# Altium schematic symbol library kmilo17pet-TI_RS232.SchLib: 1272 symbols (part 26 of 37)
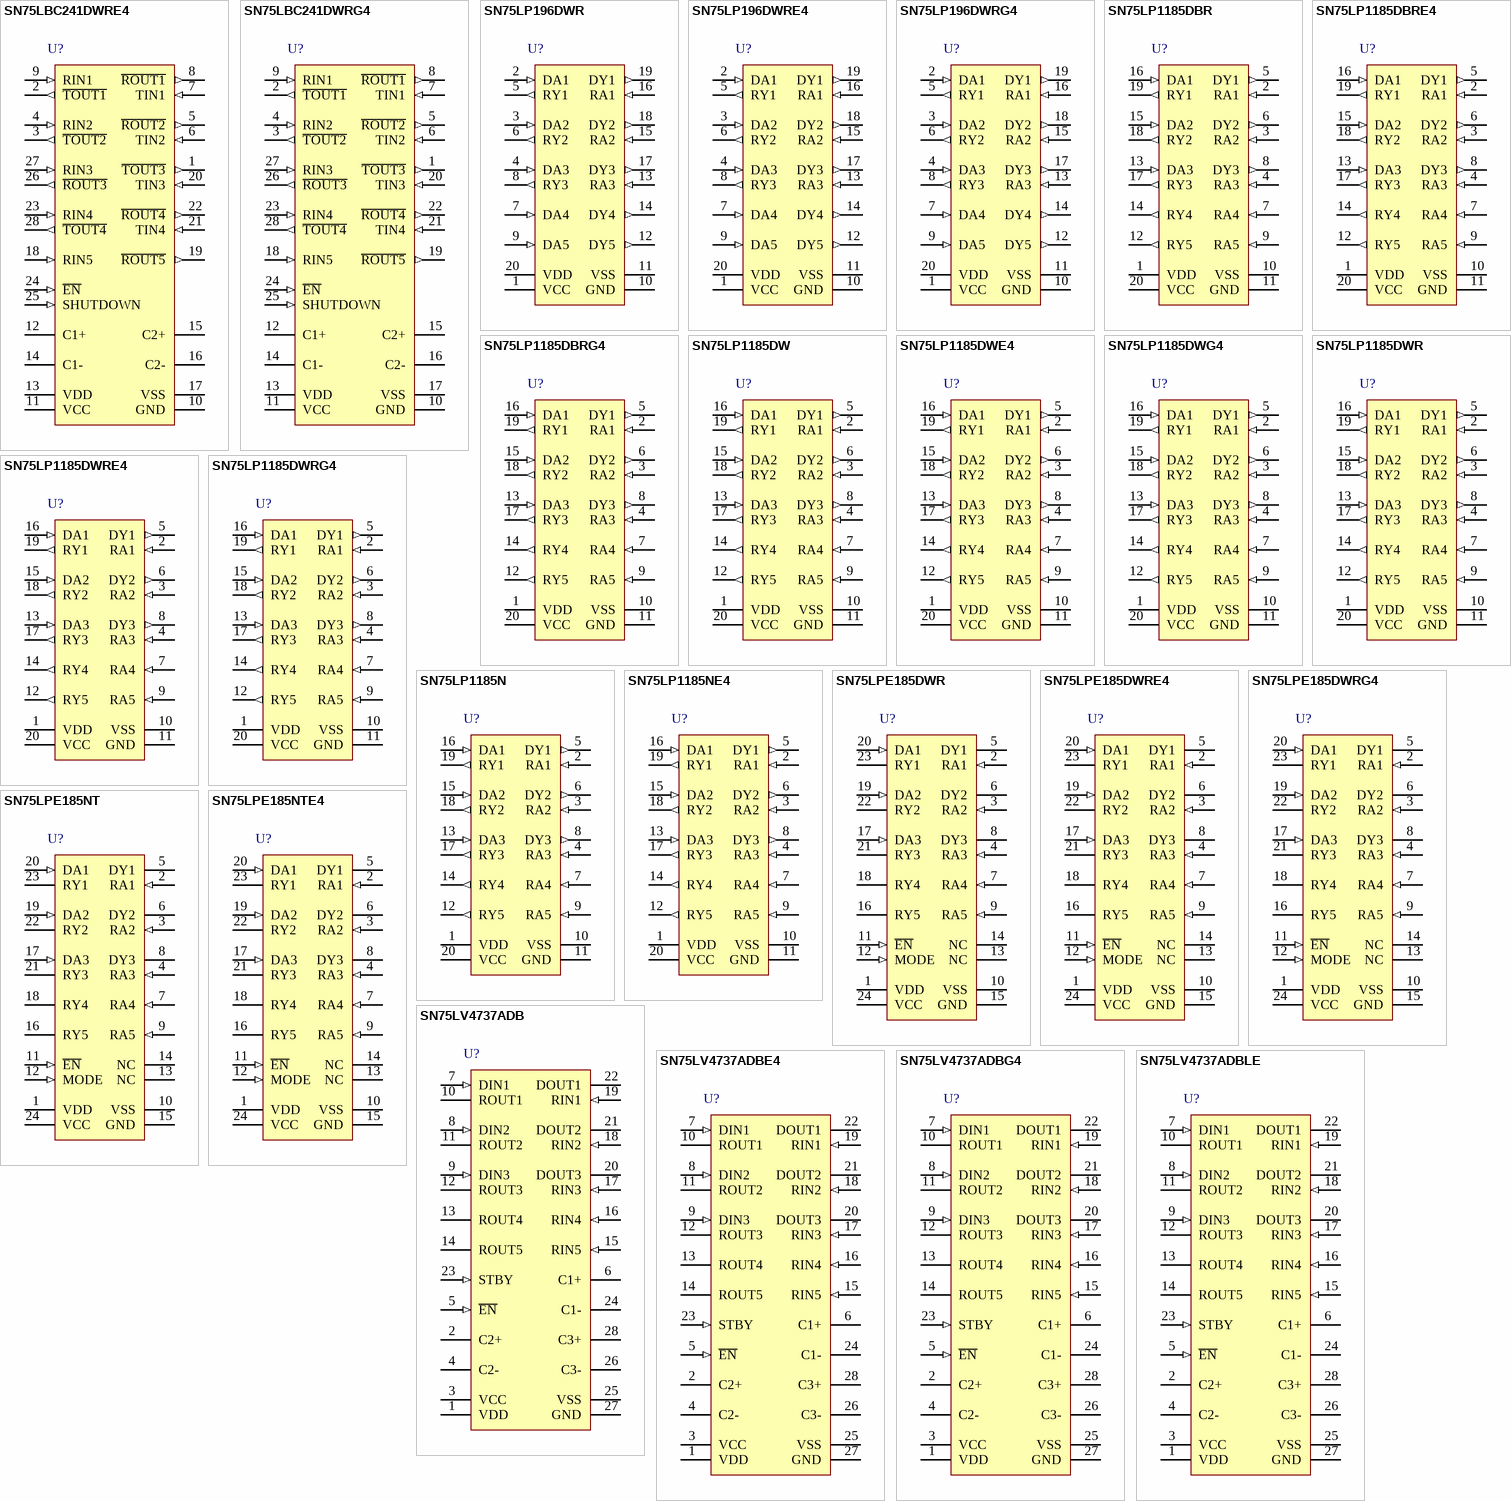
[diagram p79: symbols SN75LBC241DWRE4 to SN75LV4737ADBLE]

## SN75LV4737ADBLE
designator U?
3.3-V / 5-V Multichannel RS-232 Line Driver / Receiver, 0 to 70 degC, 28-Pin SSOP (DB), Green (RoHS & no Sb/Br); Drivers Per Package: 3; Receivers Per Package: 5; Supply Voltage(s)(V): 3.3 or 5.0; ESD HBM(kV): +/-4; ICC(Max)(mA): 20.7; Single Supply: TRUE; DatasheetVersion: SLLS178D; PackageVersion: revE, Dec-2001; PackageReference: DB28; PackageDescription: 28-Pin Plastic Small Outline Package, 10.2 x 5.3 mm Body, 0.65 mm Pitch; SubFamily: RS-232; RS-232: TRUE; ComponentLink1Description: Manufacturer URL; ComponentLink1URL: www.ti.com; ComponentLink2Description: Datasheet; ComponentLink2URL: http://www.ti.com/general/docs/lit/getliterature.tsp?genericPartNumber=SN75LV4737A&fileType=pdf; ComponentLink3Description: Package Specification; ComponentLink3URL: http://www.ti.com/litv/pdf/msso002e
footprint TI-DB28_N (SOP, 28-Leads, Body 10.2x5.3mm, Pitch 0.65mm, IPC Medium Density)
footprint TI-DB28_L (SOP, 28-Leads, Body 10.2x5.3mm, Pitch 0.65mm, IPC High Density)
footprint TI-DB28_M (SOP, 28-Leads, Body 10.2x5.3mm, Pitch 0.65mm, IPC Low Density)
pins: 1 VDD (power), 2 C2+, 3 VCC (power), 4 C2-, 5 ~{EN} (in), 6 C1+, 7 DIN1 (in), 8 DIN2 (in), 9 DIN3 (in), 10 ROUT1 (hiz), 11 ROUT2 (hiz), 12 ROUT3 (hiz), 13 ROUT4 (hiz), 14 ROUT5 (hiz), 15 RIN5 (in), 16 RIN4 (in), 17 RIN3 (in), 18 RIN2 (in), 19 RIN1 (in), 20 DOUT3 (hiz), 21 DOUT2 (hiz), 22 DOUT1 (hiz), 23 STBY (in), 24 C1-, 25 VSS (power), 26 C3-, 27 GND (power), 28 C3+

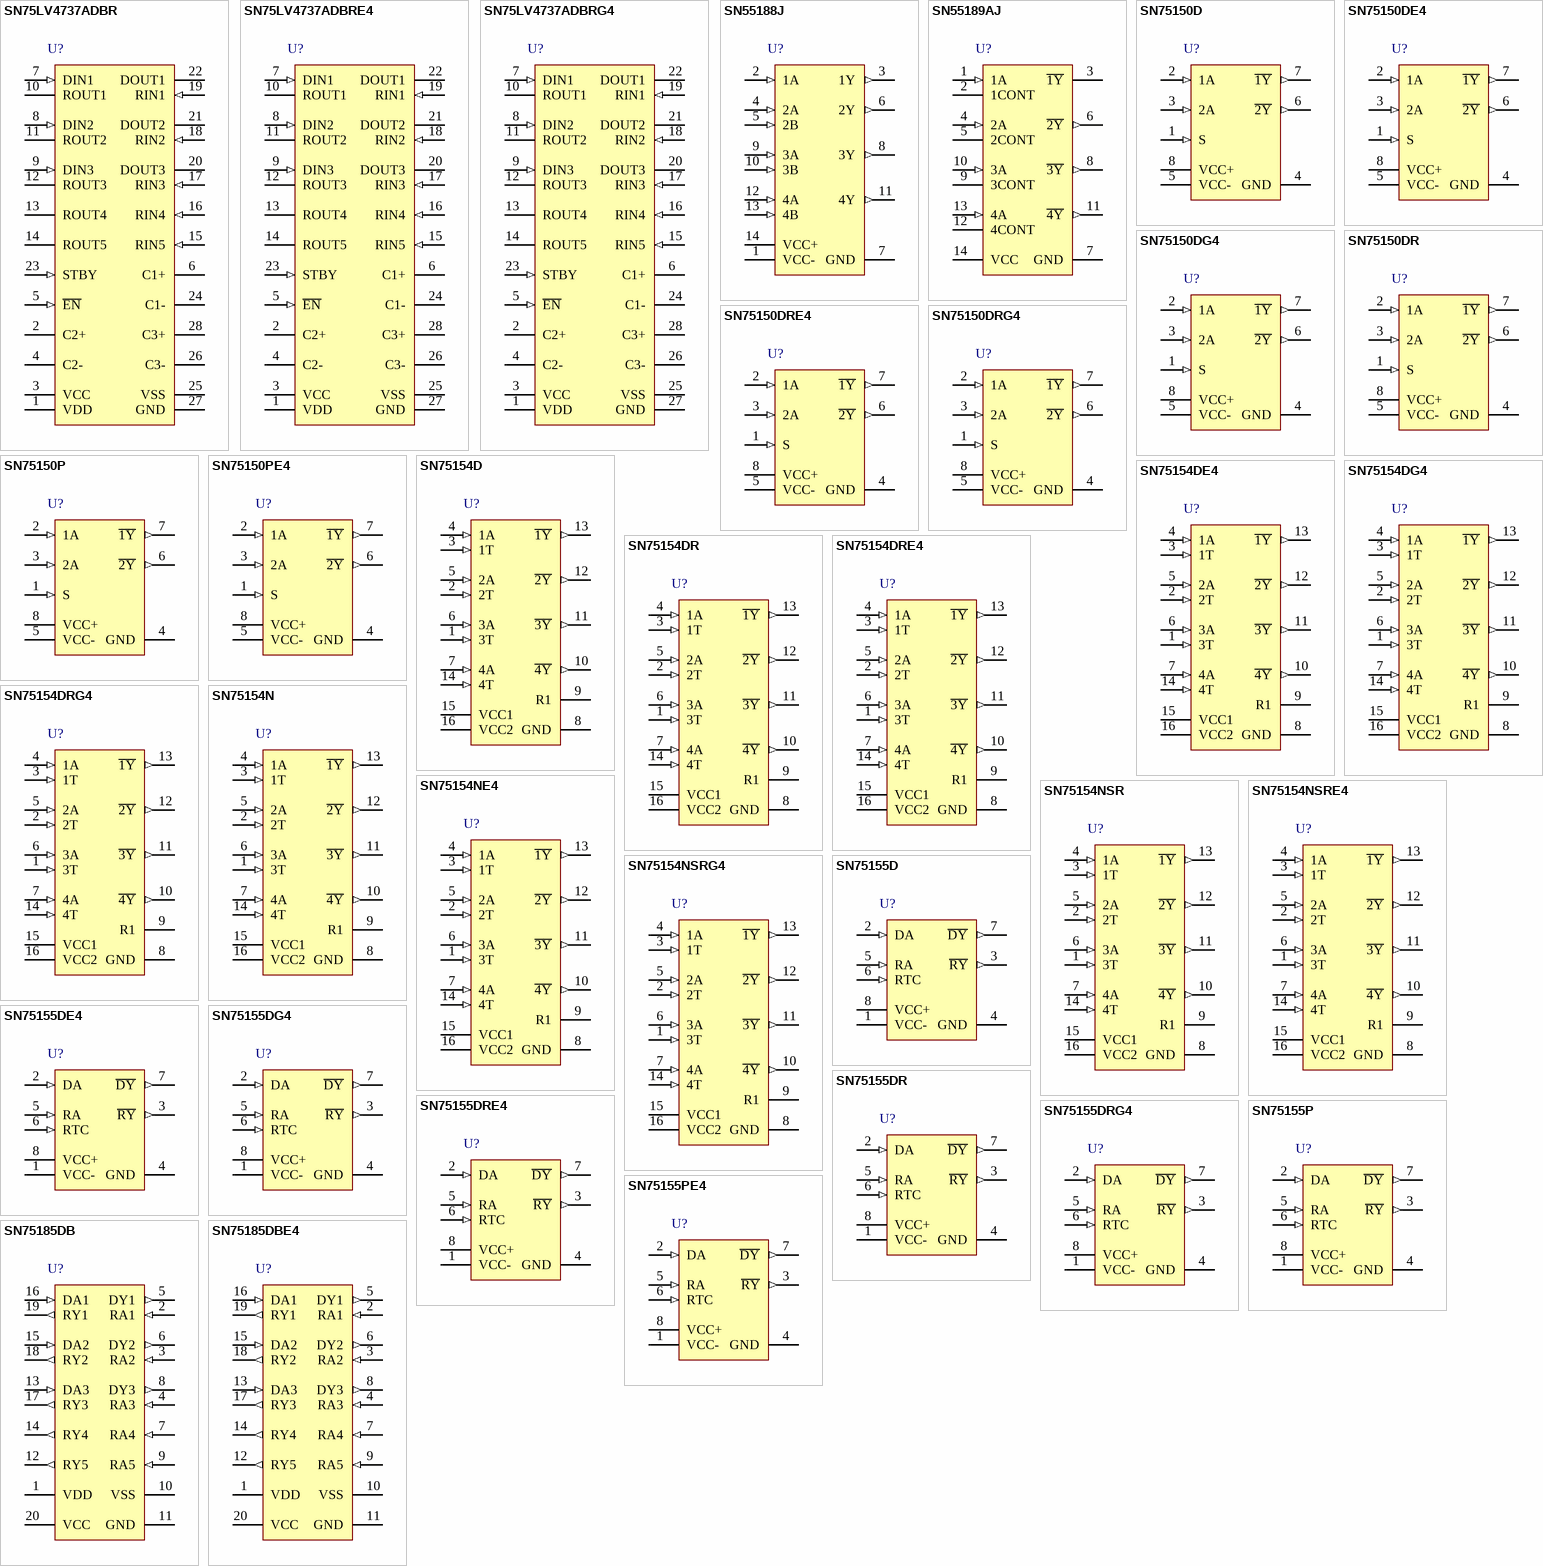
[diagram p38: symbols SN75LV4737ADBR to SN75185DBE4]

## SN75LV4737ADBR
designator U?
3.3-V / 5-V Multichannel RS-232 Line Driver / Receiver, 0 to 70 degC, 28-Pin SSOP (DB), Green (RoHS & no Sb/Br); Drivers Per Package: 3; Receivers Per Package: 5; Supply Voltage(s)(V): 3.3 or 5.0; ESD HBM(kV): +/-4; ICC(Max)(mA): 20.7; Single Supply: TRUE; DatasheetVersion: SLLS178D; PackageVersion: revE, Dec-2001; PackageReference: DB28; PackageDescription: 28-Pin Plastic Small Outline Package, 10.2 x 5.3 mm Body, 0.65 mm Pitch; SubFamily: RS-232; RS-232: TRUE; ComponentLink1Description: Manufacturer URL; ComponentLink1URL: www.ti.com; ComponentLink2Description: Datasheet; ComponentLink2URL: http://www.ti.com/general/docs/lit/getliterature.tsp?genericPartNumber=SN75LV4737A&fileType=pdf; ComponentLink3Description: Package Specification; ComponentLink3URL: http://www.ti.com/litv/pdf/msso002e
footprint TI-DB28_N (SOP, 28-Leads, Body 10.2x5.3mm, Pitch 0.65mm, IPC Medium Density)
footprint TI-DB28_L (SOP, 28-Leads, Body 10.2x5.3mm, Pitch 0.65mm, IPC High Density)
footprint TI-DB28_M (SOP, 28-Leads, Body 10.2x5.3mm, Pitch 0.65mm, IPC Low Density)
pins: 1 VDD (power), 2 C2+, 3 VCC (power), 4 C2-, 5 ~{EN} (in), 6 C1+, 7 DIN1 (in), 8 DIN2 (in), 9 DIN3 (in), 10 ROUT1 (hiz), 11 ROUT2 (hiz), 12 ROUT3 (hiz), 13 ROUT4 (hiz), 14 ROUT5 (hiz), 15 RIN5 (in), 16 RIN4 (in), 17 RIN3 (in), 18 RIN2 (in), 19 RIN1 (in), 20 DOUT3 (hiz), 21 DOUT2 (hiz), 22 DOUT1 (hiz), 23 STBY (in), 24 C1-, 25 VSS (power), 26 C3-, 27 GND (power), 28 C3+

## SN75LV4737ADBRE4
designator U?
3.3-V / 5-V Multichannel RS-232 Line Driver / Receiver, 0 to 70 degC, 28-Pin SSOP (DB), Green (RoHS & no Sb/Br); Drivers Per Package: 3; Receivers Per Package: 5; Supply Voltage(s)(V): 3.3 or 5.0; ESD HBM(kV): +/-4; ICC(Max)(mA): 20.7; Single Supply: TRUE; DatasheetVersion: SLLS178D; PackageVersion: revE, Dec-2001; PackageReference: DB28; PackageDescription: 28-Pin Plastic Small Outline Package, 10.2 x 5.3 mm Body, 0.65 mm Pitch; SubFamily: RS-232; RS-232: TRUE; ComponentLink1Description: Manufacturer URL; ComponentLink1URL: www.ti.com; ComponentLink2Description: Datasheet; ComponentLink2URL: http://www.ti.com/general/docs/lit/getliterature.tsp?genericPartNumber=SN75LV4737A&fileType=pdf; ComponentLink3Description: Package Specification; ComponentLink3URL: http://www.ti.com/litv/pdf/msso002e
footprint TI-DB28_N (SOP, 28-Leads, Body 10.2x5.3mm, Pitch 0.65mm, IPC Medium Density)
footprint TI-DB28_L (SOP, 28-Leads, Body 10.2x5.3mm, Pitch 0.65mm, IPC High Density)
footprint TI-DB28_M (SOP, 28-Leads, Body 10.2x5.3mm, Pitch 0.65mm, IPC Low Density)
pins: 1 VDD (power), 2 C2+, 3 VCC (power), 4 C2-, 5 ~{EN} (in), 6 C1+, 7 DIN1 (in), 8 DIN2 (in), 9 DIN3 (in), 10 ROUT1 (hiz), 11 ROUT2 (hiz), 12 ROUT3 (hiz), 13 ROUT4 (hiz), 14 ROUT5 (hiz), 15 RIN5 (in), 16 RIN4 (in), 17 RIN3 (in), 18 RIN2 (in), 19 RIN1 (in), 20 DOUT3 (hiz), 21 DOUT2 (hiz), 22 DOUT1 (hiz), 23 STBY (in), 24 C1-, 25 VSS (power), 26 C3-, 27 GND (power), 28 C3+

## SN75LV4737ADBRG4
designator U?
3.3-V / 5-V Multichannel RS-232 Line Driver / Receiver, 0 to 70 degC, 28-Pin SSOP (DB), Green (RoHS & no Sb/Br); Drivers Per Package: 3; Receivers Per Package: 5; Supply Voltage(s)(V): 3.3 or 5.0; ESD HBM(kV): +/-4; ICC(Max)(mA): 20.7; Single Supply: TRUE; DatasheetVersion: SLLS178D; PackageVersion: revE, Dec-2001; PackageReference: DB28; PackageDescription: 28-Pin Plastic Small Outline Package, 10.2 x 5.3 mm Body, 0.65 mm Pitch; SubFamily: RS-232; RS-232: TRUE; ComponentLink1Description: Manufacturer URL; ComponentLink1URL: www.ti.com; ComponentLink2Description: Datasheet; ComponentLink2URL: http://www.ti.com/general/docs/lit/getliterature.tsp?genericPartNumber=SN75LV4737A&fileType=pdf; ComponentLink3Description: Package Specification; ComponentLink3URL: http://www.ti.com/litv/pdf/msso002e
footprint TI-DB28_N (SOP, 28-Leads, Body 10.2x5.3mm, Pitch 0.65mm, IPC Medium Density)
footprint TI-DB28_L (SOP, 28-Leads, Body 10.2x5.3mm, Pitch 0.65mm, IPC High Density)
footprint TI-DB28_M (SOP, 28-Leads, Body 10.2x5.3mm, Pitch 0.65mm, IPC Low Density)
pins: 1 VDD (power), 2 C2+, 3 VCC (power), 4 C2-, 5 ~{EN} (in), 6 C1+, 7 DIN1 (in), 8 DIN2 (in), 9 DIN3 (in), 10 ROUT1 (hiz), 11 ROUT2 (hiz), 12 ROUT3 (hiz), 13 ROUT4 (hiz), 14 ROUT5 (hiz), 15 RIN5 (in), 16 RIN4 (in), 17 RIN3 (in), 18 RIN2 (in), 19 RIN1 (in), 20 DOUT3 (hiz), 21 DOUT2 (hiz), 22 DOUT1 (hiz), 23 STBY (in), 24 C1-, 25 VSS (power), 26 C3-, 27 GND (power), 28 C3+

## SN55188J
designator U?
Quadruple Line Driver, -55 to 125 degC, 14-Pin CDIP (J); SubFamily: RS-232; Drivers Per Package: 4; Supply Voltage(s)(V): +/-9.0; ICC(Max)(mA): +/-34; RS-232: TRUE; DatasheetVersion: SLLS094C; PackageVersion: revF, Mar-2003; PackageReference: J14; PackageDescription: 14-Pin Ceramic Dual-In-Line Package, Row Spacing 7.62 mm, Pitch 2.54 mm; ComponentLink1Description: Manufacturer URL; ComponentLink1URL: www.ti.com; ComponentLink2Description: Datasheet; ComponentLink2URL: http://www.ti.com/general/docs/lit/getliterature.tsp?genericPartNumber=SN55188&fileType=pdf; ComponentLink3Description: Package Specification; ComponentLink3URL: http://www.ti.com/litv/pdf/mcer002d
footprint TI-J14 (DIP, 14-Leads, Row Spacing 7.62mm, Pitch 2.54mm, Body 19.9x6.9mm)
pins: 1 VCC- (power), 2 1A (in), 3 1Y (out), 4 2A (in), 5 2B (in), 6 2Y (out), 7 GND (power), 8 3Y (out), 9 3A (in), 10 3B (in), 11 4Y (out), 12 4A (in), 13 4B (in), 14 VCC+ (power)

## SN55189AJ
designator U?
Quadruple Line Receiver, -55 to 125 degC, 14-Pin CDIP (J); SubFamily: RS-232; Receivers Per Package: 4; Supply Voltage(s)(V): 5; ICC(Max)(mA): 26; Single Supply: TRUE; DatasheetVersion: SLLS095D; PackageVersion: revF, Mar-2003; PackageReference: J14; PackageDescription: 14-Pin Ceramic Dual-In-Line Package, Row Spacing 7.62 mm, Pitch 2.54 mm; RS-232: TRUE; ComponentLink1Description: Manufacturer URL; ComponentLink1URL: www.ti.com; ComponentLink2Description: Datasheet; ComponentLink2URL: http://www.ti.com/general/docs/lit/getliterature.tsp?genericPartNumber=SN55189A&fileType=pdf; ComponentLink3Description: Package Specification; ComponentLink3URL: http://www.ti.com/litv/pdf/mcer002d
footprint TI-J14 (DIP, 14-Leads, Row Spacing 7.62mm, Pitch 2.54mm, Body 19.9x6.9mm)
pins: 1 1A (in), 2 1CONT, 3 ~{1Y} (oc), 4 2A (in), 5 2CONT, 6 ~{2Y} (out), 7 GND (power), 8 ~{3Y} (out), 9 3CONT, 10 3A (in), 11 ~{4Y} (out), 12 4CONT, 13 4A (in), 14 VCC (power)

## SN75150D
designator U?
Dual Line Driver, 0 to 70 degC, 8-Pin SOIC (D), Green (RoHS & no Sb/Br); SubFamily: RS-232; Drivers Per Package: 2; Supply Voltage(s)(V): +/-12.0; ESD HBM(kV): +/-2; ICC(Max)(mA): +22/-20; RS-232: TRUE; DatasheetVersion: SLLS081C; PackageVersion: revM, Jun-2011; PackageReference: D8; PackageDescription: 8-Pin Plastic Small Outline Integrated Circuit, 4.9 x 3.9 mm, Pitch 1.27 mm Pitch; ComponentLink1Description: Manufacturer URL; ComponentLink1URL: www.ti.com; ComponentLink2Description: Datasheet; ComponentLink2URL: http://www.ti.com/general/docs/lit/getliterature.tsp?genericPartNumber=SN75150&fileType=pdf; ComponentLink3Description: Package Specification; ComponentLink3URL: http://www.ti.com/litv/pdf/msoi002j
footprint TI-D8_N (SOIC, 8-Leads, Body 4.9x3.9mm, Pitch 1.27mm, IPC Medium Density)
footprint TI-D8_L (SOIC, 8-Leads, Body 4.9x3.9mm, Pitch 1.27mm, IPC High Density)
footprint TI-D8_M (SOIC, 8-Leads, Body 4.9x3.9mm, Pitch 1.27mm, IPC Low Density)
pins: 1 S (in), 2 1A (in), 3 2A (in), 4 GND (power), 5 VCC- (power), 6 ~{2Y} (out), 7 ~{1Y} (out), 8 VCC+ (power)

## SN75150DE4
designator U?
Dual Line Driver, 0 to 70 degC, 8-Pin SOIC (D), Green (RoHS & no Sb/Br); SubFamily: RS-232; Drivers Per Package: 2; Supply Voltage(s)(V): +/-12.0; ESD HBM(kV): +/-2; ICC(Max)(mA): +22/-20; RS-232: TRUE; DatasheetVersion: SLLS081C; PackageVersion: revM, Jun-2011; PackageReference: D8; PackageDescription: 8-Pin Plastic Small Outline Integrated Circuit, 4.9 x 3.9 mm, Pitch 1.27 mm Pitch; ComponentLink1Description: Manufacturer URL; ComponentLink1URL: www.ti.com; ComponentLink2Description: Datasheet; ComponentLink2URL: http://www.ti.com/general/docs/lit/getliterature.tsp?genericPartNumber=SN75150&fileType=pdf; ComponentLink3Description: Package Specification; ComponentLink3URL: http://www.ti.com/litv/pdf/msoi002j
footprint TI-D8_N (SOIC, 8-Leads, Body 4.9x3.9mm, Pitch 1.27mm, IPC Medium Density)
footprint TI-D8_L (SOIC, 8-Leads, Body 4.9x3.9mm, Pitch 1.27mm, IPC High Density)
footprint TI-D8_M (SOIC, 8-Leads, Body 4.9x3.9mm, Pitch 1.27mm, IPC Low Density)
pins: 1 S (in), 2 1A (in), 3 2A (in), 4 GND (power), 5 VCC- (power), 6 ~{2Y} (out), 7 ~{1Y} (out), 8 VCC+ (power)

## SN75150DG4
designator U?
Dual Line Driver, 0 to 70 degC, 8-Pin SOIC (D), Green (RoHS & no Sb/Br); SubFamily: RS-232; Drivers Per Package: 2; Supply Voltage(s)(V): +/-12.0; ESD HBM(kV): +/-2; ICC(Max)(mA): +22/-20; RS-232: TRUE; DatasheetVersion: SLLS081C; PackageVersion: revM, Jun-2011; PackageReference: D8; PackageDescription: 8-Pin Plastic Small Outline Integrated Circuit, 4.9 x 3.9 mm, Pitch 1.27 mm Pitch; ComponentLink1Description: Manufacturer URL; ComponentLink1URL: www.ti.com; ComponentLink2Description: Datasheet; ComponentLink2URL: http://www.ti.com/general/docs/lit/getliterature.tsp?genericPartNumber=SN75150&fileType=pdf; ComponentLink3Description: Package Specification; ComponentLink3URL: http://www.ti.com/litv/pdf/msoi002j
footprint TI-D8_N (SOIC, 8-Leads, Body 4.9x3.9mm, Pitch 1.27mm, IPC Medium Density)
footprint TI-D8_L (SOIC, 8-Leads, Body 4.9x3.9mm, Pitch 1.27mm, IPC High Density)
footprint TI-D8_M (SOIC, 8-Leads, Body 4.9x3.9mm, Pitch 1.27mm, IPC Low Density)
pins: 1 S (in), 2 1A (in), 3 2A (in), 4 GND (power), 5 VCC- (power), 6 ~{2Y} (out), 7 ~{1Y} (out), 8 VCC+ (power)

## SN75150DR
designator U?
Dual Line Driver, 0 to 70 degC, 8-Pin SOIC (D), Green (RoHS & no Sb/Br); SubFamily: RS-232; Drivers Per Package: 2; Supply Voltage(s)(V): +/-12.0; ESD HBM(kV): +/-2; ICC(Max)(mA): +22/-20; RS-232: TRUE; DatasheetVersion: SLLS081C; PackageVersion: revM, Jun-2011; PackageReference: D8; PackageDescription: 8-Pin Plastic Small Outline Integrated Circuit, 4.9 x 3.9 mm, Pitch 1.27 mm Pitch; ComponentLink1Description: Manufacturer URL; ComponentLink1URL: www.ti.com; ComponentLink2Description: Datasheet; ComponentLink2URL: http://www.ti.com/general/docs/lit/getliterature.tsp?genericPartNumber=SN75150&fileType=pdf; ComponentLink3Description: Package Specification; ComponentLink3URL: http://www.ti.com/litv/pdf/msoi002j
footprint TI-D8_N (SOIC, 8-Leads, Body 4.9x3.9mm, Pitch 1.27mm, IPC Medium Density)
footprint TI-D8_L (SOIC, 8-Leads, Body 4.9x3.9mm, Pitch 1.27mm, IPC High Density)
footprint TI-D8_M (SOIC, 8-Leads, Body 4.9x3.9mm, Pitch 1.27mm, IPC Low Density)
pins: 1 S (in), 2 1A (in), 3 2A (in), 4 GND (power), 5 VCC- (power), 6 ~{2Y} (out), 7 ~{1Y} (out), 8 VCC+ (power)

## SN75150DRE4
designator U?
Dual Line Driver, 0 to 70 degC, 8-Pin SOIC (D), Green (RoHS & no Sb/Br); SubFamily: RS-232; Drivers Per Package: 2; Supply Voltage(s)(V): +/-12.0; ESD HBM(kV): +/-2; ICC(Max)(mA): +22/-20; RS-232: TRUE; DatasheetVersion: SLLS081C; PackageVersion: revM, Jun-2011; PackageReference: D8; PackageDescription: 8-Pin Plastic Small Outline Integrated Circuit, 4.9 x 3.9 mm, Pitch 1.27 mm Pitch; ComponentLink1Description: Manufacturer URL; ComponentLink1URL: www.ti.com; ComponentLink2Description: Datasheet; ComponentLink2URL: http://www.ti.com/general/docs/lit/getliterature.tsp?genericPartNumber=SN75150&fileType=pdf; ComponentLink3Description: Package Specification; ComponentLink3URL: http://www.ti.com/litv/pdf/msoi002j
footprint TI-D8_N (SOIC, 8-Leads, Body 4.9x3.9mm, Pitch 1.27mm, IPC Medium Density)
footprint TI-D8_L (SOIC, 8-Leads, Body 4.9x3.9mm, Pitch 1.27mm, IPC High Density)
footprint TI-D8_M (SOIC, 8-Leads, Body 4.9x3.9mm, Pitch 1.27mm, IPC Low Density)
pins: 1 S (in), 2 1A (in), 3 2A (in), 4 GND (power), 5 VCC- (power), 6 ~{2Y} (out), 7 ~{1Y} (out), 8 VCC+ (power)

## SN75150DRG4
designator U?
Dual Line Driver, 0 to 70 degC, 8-Pin SOIC (D), Green (RoHS & no Sb/Br); SubFamily: RS-232; Drivers Per Package: 2; Supply Voltage(s)(V): +/-12.0; ESD HBM(kV): +/-2; ICC(Max)(mA): +22/-20; RS-232: TRUE; DatasheetVersion: SLLS081C; PackageVersion: revM, Jun-2011; PackageReference: D8; PackageDescription: 8-Pin Plastic Small Outline Integrated Circuit, 4.9 x 3.9 mm, Pitch 1.27 mm Pitch; ComponentLink1Description: Manufacturer URL; ComponentLink1URL: www.ti.com; ComponentLink2Description: Datasheet; ComponentLink2URL: http://www.ti.com/general/docs/lit/getliterature.tsp?genericPartNumber=SN75150&fileType=pdf; ComponentLink3Description: Package Specification; ComponentLink3URL: http://www.ti.com/litv/pdf/msoi002j
footprint TI-D8_N (SOIC, 8-Leads, Body 4.9x3.9mm, Pitch 1.27mm, IPC Medium Density)
footprint TI-D8_L (SOIC, 8-Leads, Body 4.9x3.9mm, Pitch 1.27mm, IPC High Density)
footprint TI-D8_M (SOIC, 8-Leads, Body 4.9x3.9mm, Pitch 1.27mm, IPC Low Density)
pins: 1 S (in), 2 1A (in), 3 2A (in), 4 GND (power), 5 VCC- (power), 6 ~{2Y} (out), 7 ~{1Y} (out), 8 VCC+ (power)

## SN75150P
designator U?
Dual Line Driver, 0 to 70 degC, 8-Pin PDIP (P), Pb-Free (RoHS); SubFamily: RS-232; Drivers Per Package: 2; Supply Voltage(s)(V): +/-12.0; ESD HBM(kV): +/-2; ICC(Max)(mA): +22/-20; RS-232: TRUE; DatasheetVersion: SLLS081C; PackageVersion: revE, Apr-2010; PackageReference: P8; PackageDescription: 8-Pin Plastic Dual-In-Line Package, Row Spacing 7.62 mm, Pitch 2.54 mm; ComponentLink1Description: Manufacturer URL; ComponentLink1URL: www.ti.com; ComponentLink2Description: Datasheet; ComponentLink2URL: http://www.ti.com/general/docs/lit/getliterature.tsp?genericPartNumber=SN75150&fileType=pdf; ComponentLink3Description: Package Specification; ComponentLink3URL: http://www.ti.com/litv/pdf/mpdi001b
footprint TI-P8 (DIP, 8-Leads, Row Spacing 7.62mm, Pitch 2.54mm, Body 9.6x6.4mm)
pins: 1 S (in), 2 1A (in), 3 2A (in), 4 GND (power), 5 VCC- (power), 6 ~{2Y} (out), 7 ~{1Y} (out), 8 VCC+ (power)

## SN75150PE4
designator U?
Dual Line Driver, 0 to 70 degC, 8-Pin PDIP (P), Pb-Free (RoHS); SubFamily: RS-232; Drivers Per Package: 2; Supply Voltage(s)(V): +/-12.0; ESD HBM(kV): +/-2; ICC(Max)(mA): +22/-20; RS-232: TRUE; DatasheetVersion: SLLS081C; PackageVersion: revE, Apr-2010; PackageReference: P8; PackageDescription: 8-Pin Plastic Dual-In-Line Package, Row Spacing 7.62 mm, Pitch 2.54 mm; ComponentLink1Description: Manufacturer URL; ComponentLink1URL: www.ti.com; ComponentLink2Description: Datasheet; ComponentLink2URL: http://www.ti.com/general/docs/lit/getliterature.tsp?genericPartNumber=SN75150&fileType=pdf; ComponentLink3Description: Package Specification; ComponentLink3URL: http://www.ti.com/litv/pdf/mpdi001b
footprint TI-P8 (DIP, 8-Leads, Row Spacing 7.62mm, Pitch 2.54mm, Body 9.6x6.4mm)
pins: 1 S (in), 2 1A (in), 3 2A (in), 4 GND (power), 5 VCC- (power), 6 ~{2Y} (out), 7 ~{1Y} (out), 8 VCC+ (power)

## SN75154D
designator U?
Quadruple Line Receiver, 0 to 70 degC, 16-Pin SOIC (D), Green (RoHS & no Sb/Br); SubFamily: RS-232; Drivers Per Package: 4; Supply Voltage(s)(V): 5.0 or 12.0; ICC(Max)(mA): 35 or 40; Single Supply: TRUE; DatasheetVersion: SLLS083B; PackageVersion: revM, Jun-2011; PackageReference: D16; PackageDescription: 16-Pin Plastic Small Outline Integrated Circuit, 9.9 x 3.9 mm, Pitch 1.27 mm Pitch; Receivers Per Package: 4; RS-232: TRUE; ComponentLink1Description: Manufacturer URL; ComponentLink1URL: www.ti.com; ComponentLink2Description: Datasheet; ComponentLink2URL: http://www.ti.com/general/docs/lit/getliterature.tsp?genericPartNumber=SN75154&fileType=pdf; ComponentLink3Description: Package Specification; ComponentLink3URL: http://www.ti.com/litv/pdf/mpds178g
footprint TI-D16_N (SOIC, 16-Leads, Body 9.9x3.9mm, Pitch 1.27mm, IPC Medium Density)
footprint TI-D16_L (SOIC, 16-Leads, Body 9.9x3.9mm, Pitch 1.27mm, IPC High Density)
footprint TI-D16_M (SOIC, 16-Leads, Body 9.9x3.9mm, Pitch 1.27mm, IPC Low Density)
pins: 1 3T (in), 2 2T (in), 3 1T (in), 4 1A (in), 5 2A (in), 6 3A (in), 7 4A (in), 8 GND (power), 9 R1, 10 ~{4Y} (out), 11 ~{3Y} (out), 12 ~{2Y} (out), 13 ~{1Y} (out), 14 4T (in), 15 VCC1 (power), 16 VCC2 (power)

## SN75154DE4
designator U?
Quadruple Line Receiver, 0 to 70 degC, 16-Pin SOIC (D), Green (RoHS & no Sb/Br); SubFamily: RS-232; Drivers Per Package: 4; Supply Voltage(s)(V): 5.0 or 12.0; ICC(Max)(mA): 35 or 40; Single Supply: TRUE; DatasheetVersion: SLLS083B; PackageVersion: revM, Jun-2011; PackageReference: D16; PackageDescription: 16-Pin Plastic Small Outline Integrated Circuit, 9.9 x 3.9 mm, Pitch 1.27 mm Pitch; Receivers Per Package: 4; RS-232: TRUE; ComponentLink1Description: Manufacturer URL; ComponentLink1URL: www.ti.com; ComponentLink2Description: Datasheet; ComponentLink2URL: http://www.ti.com/general/docs/lit/getliterature.tsp?genericPartNumber=SN75154&fileType=pdf; ComponentLink3Description: Package Specification; ComponentLink3URL: http://www.ti.com/litv/pdf/mpds178g
footprint TI-D16_N (SOIC, 16-Leads, Body 9.9x3.9mm, Pitch 1.27mm, IPC Medium Density)
footprint TI-D16_L (SOIC, 16-Leads, Body 9.9x3.9mm, Pitch 1.27mm, IPC High Density)
footprint TI-D16_M (SOIC, 16-Leads, Body 9.9x3.9mm, Pitch 1.27mm, IPC Low Density)
pins: 1 3T (in), 2 2T (in), 3 1T (in), 4 1A (in), 5 2A (in), 6 3A (in), 7 4A (in), 8 GND (power), 9 R1, 10 ~{4Y} (out), 11 ~{3Y} (out), 12 ~{2Y} (out), 13 ~{1Y} (out), 14 4T (in), 15 VCC1 (power), 16 VCC2 (power)

## SN75154DG4
designator U?
Quadruple Line Receiver, 0 to 70 degC, 16-Pin SOIC (D), Green (RoHS & no Sb/Br); SubFamily: RS-232; Drivers Per Package: 4; Supply Voltage(s)(V): 5.0 or 12.0; ICC(Max)(mA): 35 or 40; Single Supply: TRUE; DatasheetVersion: SLLS083B; PackageVersion: revM, Jun-2011; PackageReference: D16; PackageDescription: 16-Pin Plastic Small Outline Integrated Circuit, 9.9 x 3.9 mm, Pitch 1.27 mm Pitch; Receivers Per Package: 4; RS-232: TRUE; ComponentLink1Description: Manufacturer URL; ComponentLink1URL: www.ti.com; ComponentLink2Description: Datasheet; ComponentLink2URL: http://www.ti.com/general/docs/lit/getliterature.tsp?genericPartNumber=SN75154&fileType=pdf; ComponentLink3Description: Package Specification; ComponentLink3URL: http://www.ti.com/litv/pdf/mpds178g
footprint TI-D16_N (SOIC, 16-Leads, Body 9.9x3.9mm, Pitch 1.27mm, IPC Medium Density)
footprint TI-D16_L (SOIC, 16-Leads, Body 9.9x3.9mm, Pitch 1.27mm, IPC High Density)
footprint TI-D16_M (SOIC, 16-Leads, Body 9.9x3.9mm, Pitch 1.27mm, IPC Low Density)
pins: 1 3T (in), 2 2T (in), 3 1T (in), 4 1A (in), 5 2A (in), 6 3A (in), 7 4A (in), 8 GND (power), 9 R1, 10 ~{4Y} (out), 11 ~{3Y} (out), 12 ~{2Y} (out), 13 ~{1Y} (out), 14 4T (in), 15 VCC1 (power), 16 VCC2 (power)

## SN75154DR
designator U?
Quadruple Line Receiver, 0 to 70 degC, 16-Pin SOIC (D), Green (RoHS & no Sb/Br); SubFamily: RS-232; Drivers Per Package: 4; Supply Voltage(s)(V): 5.0 or 12.0; ICC(Max)(mA): 35 or 40; Single Supply: TRUE; DatasheetVersion: SLLS083B; PackageVersion: revM, Jun-2011; PackageReference: D16; PackageDescription: 16-Pin Plastic Small Outline Integrated Circuit, 9.9 x 3.9 mm, Pitch 1.27 mm Pitch; Receivers Per Package: 4; RS-232: TRUE; ComponentLink1Description: Manufacturer URL; ComponentLink1URL: www.ti.com; ComponentLink2Description: Datasheet; ComponentLink2URL: http://www.ti.com/general/docs/lit/getliterature.tsp?genericPartNumber=SN75154&fileType=pdf; ComponentLink3Description: Package Specification; ComponentLink3URL: http://www.ti.com/litv/pdf/mpds178g
footprint TI-D16_N (SOIC, 16-Leads, Body 9.9x3.9mm, Pitch 1.27mm, IPC Medium Density)
footprint TI-D16_L (SOIC, 16-Leads, Body 9.9x3.9mm, Pitch 1.27mm, IPC High Density)
footprint TI-D16_M (SOIC, 16-Leads, Body 9.9x3.9mm, Pitch 1.27mm, IPC Low Density)
pins: 1 3T (in), 2 2T (in), 3 1T (in), 4 1A (in), 5 2A (in), 6 3A (in), 7 4A (in), 8 GND (power), 9 R1, 10 ~{4Y} (out), 11 ~{3Y} (out), 12 ~{2Y} (out), 13 ~{1Y} (out), 14 4T (in), 15 VCC1 (power), 16 VCC2 (power)

## SN75154DRE4
designator U?
Quadruple Line Receiver, 0 to 70 degC, 16-Pin SOIC (D), Green (RoHS & no Sb/Br); SubFamily: RS-232; Drivers Per Package: 4; Supply Voltage(s)(V): 5.0 or 12.0; ICC(Max)(mA): 35 or 40; Single Supply: TRUE; DatasheetVersion: SLLS083B; PackageVersion: revM, Jun-2011; PackageReference: D16; PackageDescription: 16-Pin Plastic Small Outline Integrated Circuit, 9.9 x 3.9 mm, Pitch 1.27 mm Pitch; Receivers Per Package: 4; RS-232: TRUE; ComponentLink1Description: Manufacturer URL; ComponentLink1URL: www.ti.com; ComponentLink2Description: Datasheet; ComponentLink2URL: http://www.ti.com/general/docs/lit/getliterature.tsp?genericPartNumber=SN75154&fileType=pdf; ComponentLink3Description: Package Specification; ComponentLink3URL: http://www.ti.com/litv/pdf/mpds178g
footprint TI-D16_N (SOIC, 16-Leads, Body 9.9x3.9mm, Pitch 1.27mm, IPC Medium Density)
footprint TI-D16_L (SOIC, 16-Leads, Body 9.9x3.9mm, Pitch 1.27mm, IPC High Density)
footprint TI-D16_M (SOIC, 16-Leads, Body 9.9x3.9mm, Pitch 1.27mm, IPC Low Density)
pins: 1 3T (in), 2 2T (in), 3 1T (in), 4 1A (in), 5 2A (in), 6 3A (in), 7 4A (in), 8 GND (power), 9 R1, 10 ~{4Y} (out), 11 ~{3Y} (out), 12 ~{2Y} (out), 13 ~{1Y} (out), 14 4T (in), 15 VCC1 (power), 16 VCC2 (power)

## SN75154DRG4
designator U?
Quadruple Line Receiver, 0 to 70 degC, 16-Pin SOIC (D), Green (RoHS & no Sb/Br); SubFamily: RS-232; Drivers Per Package: 4; Supply Voltage(s)(V): 5.0 or 12.0; ICC(Max)(mA): 35 or 40; Single Supply: TRUE; DatasheetVersion: SLLS083B; PackageVersion: revM, Jun-2011; PackageReference: D16; PackageDescription: 16-Pin Plastic Small Outline Integrated Circuit, 9.9 x 3.9 mm, Pitch 1.27 mm Pitch; Receivers Per Package: 4; RS-232: TRUE; ComponentLink1Description: Manufacturer URL; ComponentLink1URL: www.ti.com; ComponentLink2Description: Datasheet; ComponentLink2URL: http://www.ti.com/general/docs/lit/getliterature.tsp?genericPartNumber=SN75154&fileType=pdf; ComponentLink3Description: Package Specification; ComponentLink3URL: http://www.ti.com/litv/pdf/mpds178g
footprint TI-D16_N (SOIC, 16-Leads, Body 9.9x3.9mm, Pitch 1.27mm, IPC Medium Density)
footprint TI-D16_L (SOIC, 16-Leads, Body 9.9x3.9mm, Pitch 1.27mm, IPC High Density)
footprint TI-D16_M (SOIC, 16-Leads, Body 9.9x3.9mm, Pitch 1.27mm, IPC Low Density)
pins: 1 3T (in), 2 2T (in), 3 1T (in), 4 1A (in), 5 2A (in), 6 3A (in), 7 4A (in), 8 GND (power), 9 R1, 10 ~{4Y} (out), 11 ~{3Y} (out), 12 ~{2Y} (out), 13 ~{1Y} (out), 14 4T (in), 15 VCC1 (power), 16 VCC2 (power)

## SN75154N
designator U?
Quadruple Line Receiver, 0 to 70 degC, 16-Pin PDIP (N), Pb-Free (RoHS); SubFamily: RS-232; Drivers Per Package: 4; Supply Voltage(s)(V): 5.0 or 12.0; ICC(Max)(mA): 35 or 40; Single Supply: TRUE; DatasheetVersion: SLLS083B; PackageVersion: revE, Dec-2002; PackageReference: N16; PackageDescription: 16-Pin Plastic Dual-In-Line Package, Row Spacing 7.62 mm, Pitch 2.54 mm; Receivers Per Package: 4; RS-232: TRUE; ComponentLink1Description: Manufacturer URL; ComponentLink1URL: www.ti.com; ComponentLink2Description: Datasheet; ComponentLink2URL: http://www.ti.com/general/docs/lit/getliterature.tsp?genericPartNumber=SN75154&fileType=pdf; ComponentLink3Description: Package Specification; ComponentLink3URL: http://www.ti.com/litv/pdf/mpdi002c
footprint TI-N16 (DIP, 16-Leads, Row Spacing 7.62mm, Pitch 2.54mm, Body 19.3x6.4mm)
pins: 1 3T (in), 2 2T (in), 3 1T (in), 4 1A (in), 5 2A (in), 6 3A (in), 7 4A (in), 8 GND (power), 9 R1, 10 ~{4Y} (out), 11 ~{3Y} (out), 12 ~{2Y} (out), 13 ~{1Y} (out), 14 4T (in), 15 VCC1 (power), 16 VCC2 (power)

## SN75154NE4
designator U?
Quadruple Line Receiver, 0 to 70 degC, 16-Pin PDIP (N), Pb-Free (RoHS); SubFamily: RS-232; Drivers Per Package: 4; Supply Voltage(s)(V): 5.0 or 12.0; ICC(Max)(mA): 35 or 40; Single Supply: TRUE; DatasheetVersion: SLLS083B; PackageVersion: revE, Dec-2002; PackageReference: N16; PackageDescription: 16-Pin Plastic Dual-In-Line Package, Row Spacing 7.62 mm, Pitch 2.54 mm; Receivers Per Package: 4; RS-232: TRUE; ComponentLink1Description: Manufacturer URL; ComponentLink1URL: www.ti.com; ComponentLink2Description: Datasheet; ComponentLink2URL: http://www.ti.com/general/docs/lit/getliterature.tsp?genericPartNumber=SN75154&fileType=pdf; ComponentLink3Description: Package Specification; ComponentLink3URL: http://www.ti.com/litv/pdf/mpdi002c
footprint TI-N16 (DIP, 16-Leads, Row Spacing 7.62mm, Pitch 2.54mm, Body 19.3x6.4mm)
pins: 1 3T (in), 2 2T (in), 3 1T (in), 4 1A (in), 5 2A (in), 6 3A (in), 7 4A (in), 8 GND (power), 9 R1, 10 ~{4Y} (out), 11 ~{3Y} (out), 12 ~{2Y} (out), 13 ~{1Y} (out), 14 4T (in), 15 VCC1 (power), 16 VCC2 (power)

## SN75154NSR
designator U?
Quadruple Line Receiver, 0 to 70 degC, 16-Pin SO (NS), Green (RoHS & no Sb/Br); SubFamily: RS-232; Drivers Per Package: 4; Supply Voltage(s)(V): 5.0 or 12.0; ICC(Max)(mA): 35 or 40; Single Supply: TRUE; DatasheetVersion: SLLS083B; PackageVersion: revC, Mar-2003; PackageReference: NS16; PackageDescription: 16-Pin Plastic Small Outline Package, 10.2 x 5.3 mm, Pitch 1.27 mm Pitch; Receivers Per Package: 4; RS-232: TRUE; ComponentLink1Description: Manufacturer URL; ComponentLink1URL: www.ti.com; ComponentLink2Description: Datasheet; ComponentLink2URL: http://www.ti.com/general/docs/lit/getliterature.tsp?genericPartNumber=SN75154&fileType=pdf; ComponentLink3Description: Package Specification; ComponentLink3URL: http://www.ti.com/litv/pdf/msop002a
footprint TI-NS16_N (SOP, 16-Leads, Body 10.2x5.3mm, Pitch 1.27mm, IPC Medium Density)
footprint TI-NS16_L (SOP, 16-Leads, Body 10.2x5.3mm, Pitch 1.27mm, IPC High Density)
footprint TI-NS16_M (SOP, 16-Leads, Body 10.2x5.3mm, Pitch 1.27mm, IPC Low Density)
pins: 1 3T (in), 2 2T (in), 3 1T (in), 4 1A (in), 5 2A (in), 6 3A (in), 7 4A (in), 8 GND (power), 9 R1, 10 ~{4Y} (out), 11 ~{3Y} (out), 12 ~{2Y} (out), 13 ~{1Y} (out), 14 4T (in), 15 VCC1 (power), 16 VCC2 (power)

## SN75154NSRE4
designator U?
Quadruple Line Receiver, 0 to 70 degC, 16-Pin SO (NS), Green (RoHS & no Sb/Br); SubFamily: RS-232; Drivers Per Package: 4; Supply Voltage(s)(V): 5.0 or 12.0; ICC(Max)(mA): 35 or 40; Single Supply: TRUE; DatasheetVersion: SLLS083B; PackageVersion: revC, Mar-2003; PackageReference: NS16; PackageDescription: 16-Pin Plastic Small Outline Package, 10.2 x 5.3 mm, Pitch 1.27 mm Pitch; Receivers Per Package: 4; RS-232: TRUE; ComponentLink1Description: Manufacturer URL; ComponentLink1URL: www.ti.com; ComponentLink2Description: Datasheet; ComponentLink2URL: http://www.ti.com/general/docs/lit/getliterature.tsp?genericPartNumber=SN75154&fileType=pdf; ComponentLink3Description: Package Specification; ComponentLink3URL: http://www.ti.com/litv/pdf/msop002a
footprint TI-NS16_N (SOP, 16-Leads, Body 10.2x5.3mm, Pitch 1.27mm, IPC Medium Density)
footprint TI-NS16_L (SOP, 16-Leads, Body 10.2x5.3mm, Pitch 1.27mm, IPC High Density)
footprint TI-NS16_M (SOP, 16-Leads, Body 10.2x5.3mm, Pitch 1.27mm, IPC Low Density)
pins: 1 3T (in), 2 2T (in), 3 1T (in), 4 1A (in), 5 2A (in), 6 3A (in), 7 4A (in), 8 GND (power), 9 R1, 10 ~{4Y} (out), 11 ~{3Y} (out), 12 ~{2Y} (out), 13 ~{1Y} (out), 14 4T (in), 15 VCC1 (power), 16 VCC2 (power)

## SN75154NSRG4
designator U?
Quadruple Line Receiver, 0 to 70 degC, 16-Pin SO (NS), Green (RoHS & no Sb/Br); SubFamily: RS-232; Drivers Per Package: 4; Supply Voltage(s)(V): 5.0 or 12.0; ICC(Max)(mA): 35 or 40; Single Supply: TRUE; DatasheetVersion: SLLS083B; PackageVersion: revC, Mar-2003; PackageReference: NS16; PackageDescription: 16-Pin Plastic Small Outline Package, 10.2 x 5.3 mm, Pitch 1.27 mm Pitch; Receivers Per Package: 4; RS-232: TRUE; ComponentLink1Description: Manufacturer URL; ComponentLink1URL: www.ti.com; ComponentLink2Description: Datasheet; ComponentLink2URL: http://www.ti.com/general/docs/lit/getliterature.tsp?genericPartNumber=SN75154&fileType=pdf; ComponentLink3Description: Package Specification; ComponentLink3URL: http://www.ti.com/litv/pdf/msop002a
footprint TI-NS16_N (SOP, 16-Leads, Body 10.2x5.3mm, Pitch 1.27mm, IPC Medium Density)
footprint TI-NS16_L (SOP, 16-Leads, Body 10.2x5.3mm, Pitch 1.27mm, IPC High Density)
footprint TI-NS16_M (SOP, 16-Leads, Body 10.2x5.3mm, Pitch 1.27mm, IPC Low Density)
pins: 1 3T (in), 2 2T (in), 3 1T (in), 4 1A (in), 5 2A (in), 6 3A (in), 7 4A (in), 8 GND (power), 9 R1, 10 ~{4Y} (out), 11 ~{3Y} (out), 12 ~{2Y} (out), 13 ~{1Y} (out), 14 4T (in), 15 VCC1 (power), 16 VCC2 (power)

## SN75155D
designator U?
Line Driver and Receiver, 0 to 70 degC, 8-Pin SOIC (D), Green (RoHS & no Sb/Br); SubFamily: RS-232; Drivers Per Package: 1; Supply Voltage(s)(V): +/-12.0; ESD HBM(kV): +/-2; ICC(Max)(mA): +14/-6.1; RS-232: TRUE; DatasheetVersion: SLLS017C; PackageVersion: revM, Jun-2011; PackageReference: D8; PackageDescription: 8-Pin Plastic Small Outline Integrated Circuit, 4.9 x 3.9 mm, Pitch 1.27 mm Pitch; Receivers Per Package: 1; ComponentLink1Description: Manufacturer URL; ComponentLink1URL: www.ti.com; ComponentLink2Description: Datasheet; ComponentLink2URL: http://www.ti.com/general/docs/lit/getliterature.tsp?genericPartNumber=SN75155&fileType=pdf; ComponentLink3Description: Package Specification; ComponentLink3URL: http://www.ti.com/litv/pdf/msoi002j
footprint TI-D8_N (SOIC, 8-Leads, Body 4.9x3.9mm, Pitch 1.27mm, IPC Medium Density)
footprint TI-D8_L (SOIC, 8-Leads, Body 4.9x3.9mm, Pitch 1.27mm, IPC High Density)
footprint TI-D8_M (SOIC, 8-Leads, Body 4.9x3.9mm, Pitch 1.27mm, IPC Low Density)
pins: 1 VCC- (power), 2 DA (in), 3 ~{RY} (out), 4 GND (power), 5 RA (in), 6 RTC (in), 7 ~{DY} (out), 8 VCC+ (power)

## SN75155DE4
designator U?
Line Driver and Receiver, 0 to 70 degC, 8-Pin SOIC (D), Green (RoHS & no Sb/Br); SubFamily: RS-232; Drivers Per Package: 1; Supply Voltage(s)(V): +/-12.0; ESD HBM(kV): +/-2; ICC(Max)(mA): +14/-6.1; RS-232: TRUE; DatasheetVersion: SLLS017C; PackageVersion: revM, Jun-2011; PackageReference: D8; PackageDescription: 8-Pin Plastic Small Outline Integrated Circuit, 4.9 x 3.9 mm, Pitch 1.27 mm Pitch; Receivers Per Package: 1; ComponentLink1Description: Manufacturer URL; ComponentLink1URL: www.ti.com; ComponentLink2Description: Datasheet; ComponentLink2URL: http://www.ti.com/general/docs/lit/getliterature.tsp?genericPartNumber=SN75155&fileType=pdf; ComponentLink3Description: Package Specification; ComponentLink3URL: http://www.ti.com/litv/pdf/msoi002j
footprint TI-D8_N (SOIC, 8-Leads, Body 4.9x3.9mm, Pitch 1.27mm, IPC Medium Density)
footprint TI-D8_L (SOIC, 8-Leads, Body 4.9x3.9mm, Pitch 1.27mm, IPC High Density)
footprint TI-D8_M (SOIC, 8-Leads, Body 4.9x3.9mm, Pitch 1.27mm, IPC Low Density)
pins: 1 VCC- (power), 2 DA (in), 3 ~{RY} (out), 4 GND (power), 5 RA (in), 6 RTC (in), 7 ~{DY} (out), 8 VCC+ (power)

## SN75155DG4
designator U?
Line Driver and Receiver, 0 to 70 degC, 8-Pin SOIC (D), Green (RoHS & no Sb/Br); SubFamily: RS-232; Drivers Per Package: 1; Supply Voltage(s)(V): +/-12.0; ESD HBM(kV): +/-2; ICC(Max)(mA): +14/-6.1; RS-232: TRUE; DatasheetVersion: SLLS017C; PackageVersion: revM, Jun-2011; PackageReference: D8; PackageDescription: 8-Pin Plastic Small Outline Integrated Circuit, 4.9 x 3.9 mm, Pitch 1.27 mm Pitch; Receivers Per Package: 1; ComponentLink1Description: Manufacturer URL; ComponentLink1URL: www.ti.com; ComponentLink2Description: Datasheet; ComponentLink2URL: http://www.ti.com/general/docs/lit/getliterature.tsp?genericPartNumber=SN75155&fileType=pdf; ComponentLink3Description: Package Specification; ComponentLink3URL: http://www.ti.com/litv/pdf/msoi002j
footprint TI-D8_N (SOIC, 8-Leads, Body 4.9x3.9mm, Pitch 1.27mm, IPC Medium Density)
footprint TI-D8_L (SOIC, 8-Leads, Body 4.9x3.9mm, Pitch 1.27mm, IPC High Density)
footprint TI-D8_M (SOIC, 8-Leads, Body 4.9x3.9mm, Pitch 1.27mm, IPC Low Density)
pins: 1 VCC- (power), 2 DA (in), 3 ~{RY} (out), 4 GND (power), 5 RA (in), 6 RTC (in), 7 ~{DY} (out), 8 VCC+ (power)

## SN75155DR
designator U?
Line Driver and Receiver, 0 to 70 degC, 8-Pin SOIC (D), Green (RoHS & no Sb/Br); SubFamily: RS-232; Drivers Per Package: 1; Supply Voltage(s)(V): +/-12.0; ESD HBM(kV): +/-2; ICC(Max)(mA): +14/-6.1; RS-232: TRUE; DatasheetVersion: SLLS017C; PackageVersion: revM, Jun-2011; PackageReference: D8; PackageDescription: 8-Pin Plastic Small Outline Integrated Circuit, 4.9 x 3.9 mm, Pitch 1.27 mm Pitch; Receivers Per Package: 1; ComponentLink1Description: Manufacturer URL; ComponentLink1URL: www.ti.com; ComponentLink2Description: Datasheet; ComponentLink2URL: http://www.ti.com/general/docs/lit/getliterature.tsp?genericPartNumber=SN75155&fileType=pdf; ComponentLink3Description: Package Specification; ComponentLink3URL: http://www.ti.com/litv/pdf/msoi002j
footprint TI-D8_N (SOIC, 8-Leads, Body 4.9x3.9mm, Pitch 1.27mm, IPC Medium Density)
footprint TI-D8_L (SOIC, 8-Leads, Body 4.9x3.9mm, Pitch 1.27mm, IPC High Density)
footprint TI-D8_M (SOIC, 8-Leads, Body 4.9x3.9mm, Pitch 1.27mm, IPC Low Density)
pins: 1 VCC- (power), 2 DA (in), 3 ~{RY} (out), 4 GND (power), 5 RA (in), 6 RTC (in), 7 ~{DY} (out), 8 VCC+ (power)

## SN75155DRE4
designator U?
Line Driver and Receiver, 0 to 70 degC, 8-Pin SOIC (D), Green (RoHS & no Sb/Br); SubFamily: RS-232; Drivers Per Package: 1; Supply Voltage(s)(V): +/-12.0; ESD HBM(kV): +/-2; ICC(Max)(mA): +14/-6.1; RS-232: TRUE; DatasheetVersion: SLLS017C; PackageVersion: revM, Jun-2011; PackageReference: D8; PackageDescription: 8-Pin Plastic Small Outline Integrated Circuit, 4.9 x 3.9 mm, Pitch 1.27 mm Pitch; Receivers Per Package: 1; ComponentLink1Description: Manufacturer URL; ComponentLink1URL: www.ti.com; ComponentLink2Description: Datasheet; ComponentLink2URL: http://www.ti.com/general/docs/lit/getliterature.tsp?genericPartNumber=SN75155&fileType=pdf; ComponentLink3Description: Package Specification; ComponentLink3URL: http://www.ti.com/litv/pdf/msoi002j
footprint TI-D8_N (SOIC, 8-Leads, Body 4.9x3.9mm, Pitch 1.27mm, IPC Medium Density)
footprint TI-D8_L (SOIC, 8-Leads, Body 4.9x3.9mm, Pitch 1.27mm, IPC High Density)
footprint TI-D8_M (SOIC, 8-Leads, Body 4.9x3.9mm, Pitch 1.27mm, IPC Low Density)
pins: 1 VCC- (power), 2 DA (in), 3 ~{RY} (out), 4 GND (power), 5 RA (in), 6 RTC (in), 7 ~{DY} (out), 8 VCC+ (power)

## SN75155DRG4
designator U?
Line Driver and Receiver, 0 to 70 degC, 8-Pin SOIC (D), Green (RoHS & no Sb/Br); SubFamily: RS-232; Drivers Per Package: 1; Supply Voltage(s)(V): +/-12.0; ESD HBM(kV): +/-2; ICC(Max)(mA): +14/-6.1; RS-232: TRUE; DatasheetVersion: SLLS017C; PackageVersion: revM, Jun-2011; PackageReference: D8; PackageDescription: 8-Pin Plastic Small Outline Integrated Circuit, 4.9 x 3.9 mm, Pitch 1.27 mm Pitch; Receivers Per Package: 1; ComponentLink1Description: Manufacturer URL; ComponentLink1URL: www.ti.com; ComponentLink2Description: Datasheet; ComponentLink2URL: http://www.ti.com/general/docs/lit/getliterature.tsp?genericPartNumber=SN75155&fileType=pdf; ComponentLink3Description: Package Specification; ComponentLink3URL: http://www.ti.com/litv/pdf/msoi002j
footprint TI-D8_N (SOIC, 8-Leads, Body 4.9x3.9mm, Pitch 1.27mm, IPC Medium Density)
footprint TI-D8_L (SOIC, 8-Leads, Body 4.9x3.9mm, Pitch 1.27mm, IPC High Density)
footprint TI-D8_M (SOIC, 8-Leads, Body 4.9x3.9mm, Pitch 1.27mm, IPC Low Density)
pins: 1 VCC- (power), 2 DA (in), 3 ~{RY} (out), 4 GND (power), 5 RA (in), 6 RTC (in), 7 ~{DY} (out), 8 VCC+ (power)

## SN75155P
designator U?
Line Driver and Receiver, 0 to 70 degC, 8-Pin PDIP (P), Pb-Free (RoHS); SubFamily: RS-232; Drivers Per Package: 1; Supply Voltage(s)(V): +/-12.0; ESD HBM(kV): +/-2; ICC(Max)(mA): +14/-6.1; RS-232: TRUE; DatasheetVersion: SLLS017C; PackageVersion: revE, Apr-2010; PackageReference: P8; PackageDescription: 8-Pin Plastic Dual-In-Line Package, Row Spacing 7.62 mm, Pitch 2.54 mm; Receivers Per Package: 1; ComponentLink1Description: Manufacturer URL; ComponentLink1URL: www.ti.com; ComponentLink2Description: Datasheet; ComponentLink2URL: http://www.ti.com/general/docs/lit/getliterature.tsp?genericPartNumber=SN75155&fileType=pdf; ComponentLink3Description: Package Specification; ComponentLink3URL: http://www.ti.com/litv/pdf/mpdi001b
footprint TI-P8 (DIP, 8-Leads, Row Spacing 7.62mm, Pitch 2.54mm, Body 9.6x6.4mm)
pins: 1 VCC- (power), 2 DA (in), 3 ~{RY} (out), 4 GND (power), 5 RA (in), 6 RTC (in), 7 ~{DY} (out), 8 VCC+ (power)

## SN75155PE4
designator U?
Line Driver and Receiver, 0 to 70 degC, 8-Pin PDIP (P), Pb-Free (RoHS); SubFamily: RS-232; Drivers Per Package: 1; Supply Voltage(s)(V): +/-12.0; ESD HBM(kV): +/-2; ICC(Max)(mA): +14/-6.1; RS-232: TRUE; DatasheetVersion: SLLS017C; PackageVersion: revE, Apr-2010; PackageReference: P8; PackageDescription: 8-Pin Plastic Dual-In-Line Package, Row Spacing 7.62 mm, Pitch 2.54 mm; Receivers Per Package: 1; ComponentLink1Description: Manufacturer URL; ComponentLink1URL: www.ti.com; ComponentLink2Description: Datasheet; ComponentLink2URL: http://www.ti.com/general/docs/lit/getliterature.tsp?genericPartNumber=SN75155&fileType=pdf; ComponentLink3Description: Package Specification; ComponentLink3URL: http://www.ti.com/litv/pdf/mpdi001b
footprint TI-P8 (DIP, 8-Leads, Row Spacing 7.62mm, Pitch 2.54mm, Body 9.6x6.4mm)
pins: 1 VCC- (power), 2 DA (in), 3 ~{RY} (out), 4 GND (power), 5 RA (in), 6 RTC (in), 7 ~{DY} (out), 8 VCC+ (power)

## SN75185DB
designator U?
Multiple RS-232 Driver / Receiver, 0 to 70 degC, 20-Pin SSOP (DB), Green (RoHS & no Sb/Br); Drivers Per Package: 3; Receivers Per Package: 5; Supply Voltage(s)(V): +/-9.0 & 5.0; ESD HBM(kV): +/-10; ICC(Max)(mA): +/-25 & 30; RS-232: TRUE; DatasheetVersion: SLLS181D; PackageVersion: revE, Dec-2001; PackageReference: DB20; PackageDescription: 20-Pin Plastic Small Outline Package, 7.2 x 5.3 mm Body, 0.65 mm Pitch; SubFamily: RS-232; ComponentLink1Description: Manufacturer URL; ComponentLink1URL: www.ti.com; ComponentLink2Description: Datasheet; ComponentLink2URL: http://www.ti.com/general/docs/lit/getliterature.tsp?genericPartNumber=SN75185&fileType=pdf; ComponentLink3Description: Package Specification; ComponentLink3URL: http://www.ti.com/litv/pdf/msso002e
footprint TI-DB20_N (SOP, 20-Leads, Body 7.2x5.3mm, Pitch 0.65mm, IPC Medium Density)
footprint TI-DB20_L (SOP, 20-Leads, Body 7.2x5.3mm, Pitch 0.65mm, IPC High Density)
footprint TI-DB20_M (SOP, 20-Leads, Body 7.2x5.3mm, Pitch 0.65mm, IPC Low Density)
pins: 1 VDD (power), 2 RA1 (in), 3 RA2 (in), 4 RA3 (in), 5 DY1 (out), 6 DY2 (out), 7 RA4 (in), 8 DY3 (out), 9 RA5 (in), 10 VSS (power), 11 GND (power), 12 RY5 (out), 13 DA3 (in), 14 RY4 (out), 15 DA2 (in), 16 DA1 (in), 17 RY3 (out), 18 RY2 (out), 19 RY1 (out), 20 VCC (power)

## SN75185DBE4
designator U?
Multiple RS-232 Driver / Receiver, 0 to 70 degC, 20-Pin SSOP (DB), Green (RoHS & no Sb/Br); Drivers Per Package: 3; Receivers Per Package: 5; Supply Voltage(s)(V): +/-9.0 & 5.0; ESD HBM(kV): +/-10; ICC(Max)(mA): +/-25 & 30; RS-232: TRUE; DatasheetVersion: SLLS181D; PackageVersion: revE, Dec-2001; PackageReference: DB20; PackageDescription: 20-Pin Plastic Small Outline Package, 7.2 x 5.3 mm Body, 0.65 mm Pitch; SubFamily: RS-232; ComponentLink1Description: Manufacturer URL; ComponentLink1URL: www.ti.com; ComponentLink2Description: Datasheet; ComponentLink2URL: http://www.ti.com/general/docs/lit/getliterature.tsp?genericPartNumber=SN75185&fileType=pdf; ComponentLink3Description: Package Specification; ComponentLink3URL: http://www.ti.com/litv/pdf/msso002e
footprint TI-DB20_N (SOP, 20-Leads, Body 7.2x5.3mm, Pitch 0.65mm, IPC Medium Density)
footprint TI-DB20_L (SOP, 20-Leads, Body 7.2x5.3mm, Pitch 0.65mm, IPC High Density)
footprint TI-DB20_M (SOP, 20-Leads, Body 7.2x5.3mm, Pitch 0.65mm, IPC Low Density)
pins: 1 VDD (power), 2 RA1 (in), 3 RA2 (in), 4 RA3 (in), 5 DY1 (out), 6 DY2 (out), 7 RA4 (in), 8 DY3 (out), 9 RA5 (in), 10 VSS (power), 11 GND (power), 12 RY5 (out), 13 DA3 (in), 14 RY4 (out), 15 DA2 (in), 16 DA1 (in), 17 RY3 (out), 18 RY2 (out), 19 RY1 (out), 20 VCC (power)

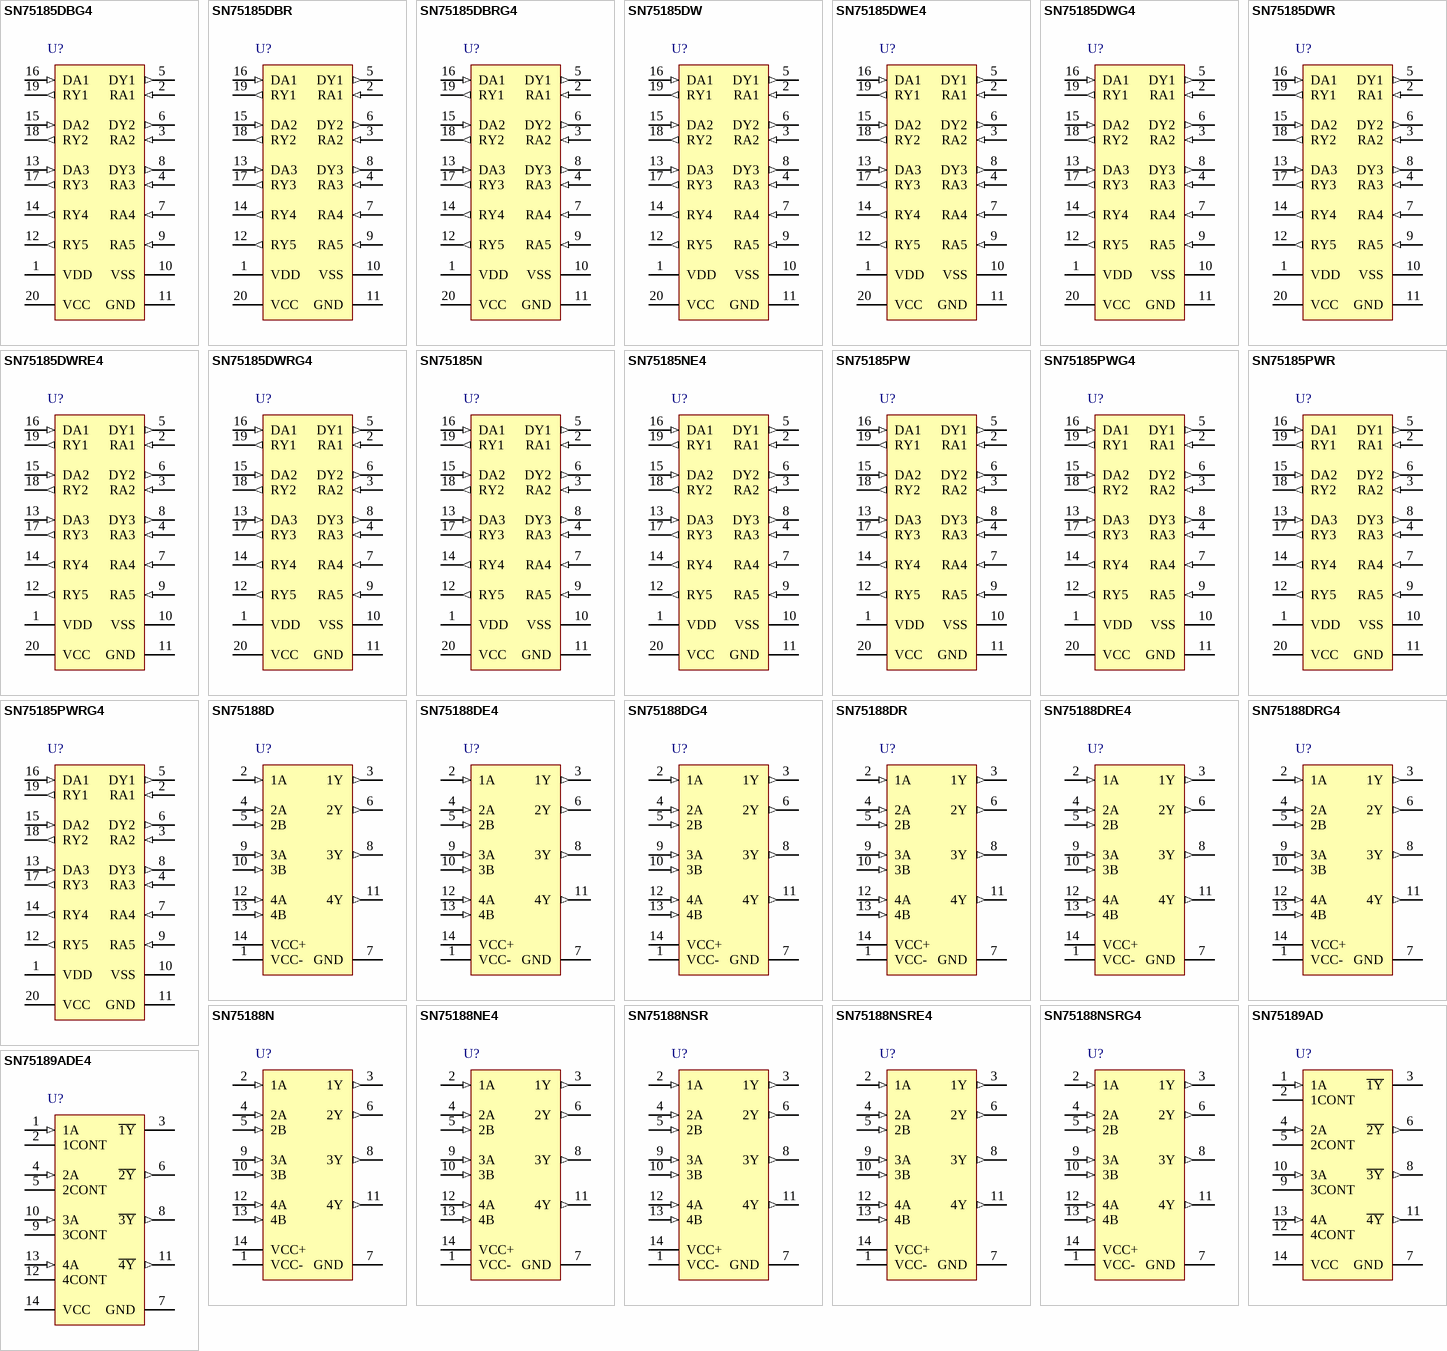
[diagram p39: symbols SN75185DBG4 to SN75189ADE4]

## SN75185DBG4
designator U?
Multiple RS-232 Driver / Receiver, 0 to 70 degC, 20-Pin SSOP (DB), Green (RoHS & no Sb/Br); Drivers Per Package: 3; Receivers Per Package: 5; Supply Voltage(s)(V): +/-9.0 & 5.0; ESD HBM(kV): +/-10; ICC(Max)(mA): +/-25 & 30; RS-232: TRUE; DatasheetVersion: SLLS181D; PackageVersion: revE, Dec-2001; PackageReference: DB20; PackageDescription: 20-Pin Plastic Small Outline Package, 7.2 x 5.3 mm Body, 0.65 mm Pitch; SubFamily: RS-232; ComponentLink1Description: Manufacturer URL; ComponentLink1URL: www.ti.com; ComponentLink2Description: Datasheet; ComponentLink2URL: http://www.ti.com/general/docs/lit/getliterature.tsp?genericPartNumber=SN75185&fileType=pdf; ComponentLink3Description: Package Specification; ComponentLink3URL: http://www.ti.com/litv/pdf/msso002e
footprint TI-DB20_N (SOP, 20-Leads, Body 7.2x5.3mm, Pitch 0.65mm, IPC Medium Density)
footprint TI-DB20_L (SOP, 20-Leads, Body 7.2x5.3mm, Pitch 0.65mm, IPC High Density)
footprint TI-DB20_M (SOP, 20-Leads, Body 7.2x5.3mm, Pitch 0.65mm, IPC Low Density)
pins: 1 VDD (power), 2 RA1 (in), 3 RA2 (in), 4 RA3 (in), 5 DY1 (out), 6 DY2 (out), 7 RA4 (in), 8 DY3 (out), 9 RA5 (in), 10 VSS (power), 11 GND (power), 12 RY5 (out), 13 DA3 (in), 14 RY4 (out), 15 DA2 (in), 16 DA1 (in), 17 RY3 (out), 18 RY2 (out), 19 RY1 (out), 20 VCC (power)

## SN75185DBR
designator U?
Multiple RS-232 Driver / Receiver, 0 to 70 degC, 20-Pin SSOP (DB), Green (RoHS & no Sb/Br); Drivers Per Package: 3; Receivers Per Package: 5; Supply Voltage(s)(V): +/-9.0 & 5.0; ESD HBM(kV): +/-10; ICC(Max)(mA): +/-25 & 30; RS-232: TRUE; DatasheetVersion: SLLS181D; PackageVersion: revE, Dec-2001; PackageReference: DB20; PackageDescription: 20-Pin Plastic Small Outline Package, 7.2 x 5.3 mm Body, 0.65 mm Pitch; SubFamily: RS-232; ComponentLink1Description: Manufacturer URL; ComponentLink1URL: www.ti.com; ComponentLink2Description: Datasheet; ComponentLink2URL: http://www.ti.com/general/docs/lit/getliterature.tsp?genericPartNumber=SN75185&fileType=pdf; ComponentLink3Description: Package Specification; ComponentLink3URL: http://www.ti.com/litv/pdf/msso002e
footprint TI-DB20_N (SOP, 20-Leads, Body 7.2x5.3mm, Pitch 0.65mm, IPC Medium Density)
footprint TI-DB20_L (SOP, 20-Leads, Body 7.2x5.3mm, Pitch 0.65mm, IPC High Density)
footprint TI-DB20_M (SOP, 20-Leads, Body 7.2x5.3mm, Pitch 0.65mm, IPC Low Density)
pins: 1 VDD (power), 2 RA1 (in), 3 RA2 (in), 4 RA3 (in), 5 DY1 (out), 6 DY2 (out), 7 RA4 (in), 8 DY3 (out), 9 RA5 (in), 10 VSS (power), 11 GND (power), 12 RY5 (out), 13 DA3 (in), 14 RY4 (out), 15 DA2 (in), 16 DA1 (in), 17 RY3 (out), 18 RY2 (out), 19 RY1 (out), 20 VCC (power)

## SN75185DBRG4
designator U?
Multiple RS-232 Driver / Receiver, 0 to 70 degC, 20-Pin SSOP (DB), Green (RoHS & no Sb/Br); Drivers Per Package: 3; Receivers Per Package: 5; Supply Voltage(s)(V): +/-9.0 & 5.0; ESD HBM(kV): +/-10; ICC(Max)(mA): +/-25 & 30; RS-232: TRUE; DatasheetVersion: SLLS181D; PackageVersion: revE, Dec-2001; PackageReference: DB20; PackageDescription: 20-Pin Plastic Small Outline Package, 7.2 x 5.3 mm Body, 0.65 mm Pitch; SubFamily: RS-232; ComponentLink1Description: Manufacturer URL; ComponentLink1URL: www.ti.com; ComponentLink2Description: Datasheet; ComponentLink2URL: http://www.ti.com/general/docs/lit/getliterature.tsp?genericPartNumber=SN75185&fileType=pdf; ComponentLink3Description: Package Specification; ComponentLink3URL: http://www.ti.com/litv/pdf/msso002e
footprint TI-DB20_N (SOP, 20-Leads, Body 7.2x5.3mm, Pitch 0.65mm, IPC Medium Density)
footprint TI-DB20_L (SOP, 20-Leads, Body 7.2x5.3mm, Pitch 0.65mm, IPC High Density)
footprint TI-DB20_M (SOP, 20-Leads, Body 7.2x5.3mm, Pitch 0.65mm, IPC Low Density)
pins: 1 VDD (power), 2 RA1 (in), 3 RA2 (in), 4 RA3 (in), 5 DY1 (out), 6 DY2 (out), 7 RA4 (in), 8 DY3 (out), 9 RA5 (in), 10 VSS (power), 11 GND (power), 12 RY5 (out), 13 DA3 (in), 14 RY4 (out), 15 DA2 (in), 16 DA1 (in), 17 RY3 (out), 18 RY2 (out), 19 RY1 (out), 20 VCC (power)

## SN75185DW
designator U?
Multiple RS-232 Driver / Receiver, 0 to 70 degC, 20-Pin SOIC (DW), Green (RoHS & no Sb/Br); Drivers Per Package: 3; Receivers Per Package: 5; Supply Voltage(s)(V): +/-9.0 & 5.0; ESD HBM(kV): +/-10; ICC(Max)(mA): +/-25 & 30; RS-232: TRUE; DatasheetVersion: SLLS181D; PackageVersion: revG, Jan-2011; PackageReference: DW20; PackageDescription: 20-Pin Plastic Small Outline Integrated Circuit, 12.8 x 7.5 mm, Pitch 1.27 mm Pitch; SubFamily: RS-232; ComponentLink1Description: Manufacturer URL; ComponentLink1URL: www.ti.com; ComponentLink2Description: Datasheet; ComponentLink2URL: http://www.ti.com/general/docs/lit/getliterature.tsp?genericPartNumber=SN75185&fileType=pdf; ComponentLink3Description: Package Specification; ComponentLink3URL: http://www.ti.com/litv/pdf/mpds173a
footprint TI-DW20_N (SOIC, 20-Leads, Body 12.8x7.5mm, Pitch 1.27mm, IPC Medium Density)
footprint TI-DW20_L (SOIC, 20-Leads, Body 12.8x7.5mm, Pitch 1.27mm, IPC High Density)
footprint TI-DW20_M (SOIC, 20-Leads, Body 12.8x7.5mm, Pitch 1.27mm, IPC Low Density)
pins: 1 VDD (power), 2 RA1 (in), 3 RA2 (in), 4 RA3 (in), 5 DY1 (out), 6 DY2 (out), 7 RA4 (in), 8 DY3 (out), 9 RA5 (in), 10 VSS (power), 11 GND (power), 12 RY5 (out), 13 DA3 (in), 14 RY4 (out), 15 DA2 (in), 16 DA1 (in), 17 RY3 (out), 18 RY2 (out), 19 RY1 (out), 20 VCC (power)

## SN75185DWE4
designator U?
Multiple RS-232 Driver / Receiver, 0 to 70 degC, 20-Pin SOIC (DW), Green (RoHS & no Sb/Br); Drivers Per Package: 3; Receivers Per Package: 5; Supply Voltage(s)(V): +/-9.0 & 5.0; ESD HBM(kV): +/-10; ICC(Max)(mA): +/-25 & 30; RS-232: TRUE; DatasheetVersion: SLLS181D; PackageVersion: revG, Jan-2011; PackageReference: DW20; PackageDescription: 20-Pin Plastic Small Outline Integrated Circuit, 12.8 x 7.5 mm, Pitch 1.27 mm Pitch; SubFamily: RS-232; ComponentLink1Description: Manufacturer URL; ComponentLink1URL: www.ti.com; ComponentLink2Description: Datasheet; ComponentLink2URL: http://www.ti.com/general/docs/lit/getliterature.tsp?genericPartNumber=SN75185&fileType=pdf; ComponentLink3Description: Package Specification; ComponentLink3URL: http://www.ti.com/litv/pdf/mpds173a
footprint TI-DW20_N (SOIC, 20-Leads, Body 12.8x7.5mm, Pitch 1.27mm, IPC Medium Density)
footprint TI-DW20_L (SOIC, 20-Leads, Body 12.8x7.5mm, Pitch 1.27mm, IPC High Density)
footprint TI-DW20_M (SOIC, 20-Leads, Body 12.8x7.5mm, Pitch 1.27mm, IPC Low Density)
pins: 1 VDD (power), 2 RA1 (in), 3 RA2 (in), 4 RA3 (in), 5 DY1 (out), 6 DY2 (out), 7 RA4 (in), 8 DY3 (out), 9 RA5 (in), 10 VSS (power), 11 GND (power), 12 RY5 (out), 13 DA3 (in), 14 RY4 (out), 15 DA2 (in), 16 DA1 (in), 17 RY3 (out), 18 RY2 (out), 19 RY1 (out), 20 VCC (power)

## SN75185DWG4
designator U?
Multiple RS-232 Driver / Receiver, 0 to 70 degC, 20-Pin SOIC (DW), Green (RoHS & no Sb/Br); Drivers Per Package: 3; Receivers Per Package: 5; Supply Voltage(s)(V): +/-9.0 & 5.0; ESD HBM(kV): +/-10; ICC(Max)(mA): +/-25 & 30; RS-232: TRUE; DatasheetVersion: SLLS181D; PackageVersion: revG, Jan-2011; PackageReference: DW20; PackageDescription: 20-Pin Plastic Small Outline Integrated Circuit, 12.8 x 7.5 mm, Pitch 1.27 mm Pitch; SubFamily: RS-232; ComponentLink1Description: Manufacturer URL; ComponentLink1URL: www.ti.com; ComponentLink2Description: Datasheet; ComponentLink2URL: http://www.ti.com/general/docs/lit/getliterature.tsp?genericPartNumber=SN75185&fileType=pdf; ComponentLink3Description: Package Specification; ComponentLink3URL: http://www.ti.com/litv/pdf/mpds173a
footprint TI-DW20_N (SOIC, 20-Leads, Body 12.8x7.5mm, Pitch 1.27mm, IPC Medium Density)
footprint TI-DW20_L (SOIC, 20-Leads, Body 12.8x7.5mm, Pitch 1.27mm, IPC High Density)
footprint TI-DW20_M (SOIC, 20-Leads, Body 12.8x7.5mm, Pitch 1.27mm, IPC Low Density)
pins: 1 VDD (power), 2 RA1 (in), 3 RA2 (in), 4 RA3 (in), 5 DY1 (out), 6 DY2 (out), 7 RA4 (in), 8 DY3 (out), 9 RA5 (in), 10 VSS (power), 11 GND (power), 12 RY5 (out), 13 DA3 (in), 14 RY4 (out), 15 DA2 (in), 16 DA1 (in), 17 RY3 (out), 18 RY2 (out), 19 RY1 (out), 20 VCC (power)